# Altium schematic symbol library MR60PW-M.Schlib: 1 symbol
Pins are listed as number, name and electrical type; pins without a type are passive.

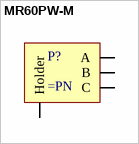
[diagram p0: symbol MR60PW-M]

## MR60PW-M
designator P?
pins: 1 A, 2 B, 3 C, 4 Holder